# Altium schematic symbol library MotorInterface.SchLib: 1 symbol
Pins are listed as number, name and electrical type; pins without a type are passive.

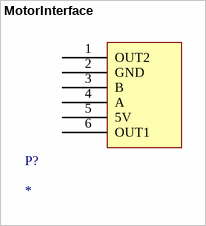
[diagram p0: symbol MotorInterface]

## MotorInterface
designator P?
footprint MotorInterface
pins: 1 OUT2, 2 GND, 3 B, 4 A, 5 5V, 6 OUT1